# EAGLE library part TS952IPT (library TS952IPT)
Input/output rail-to-rail low power operational amplifiers
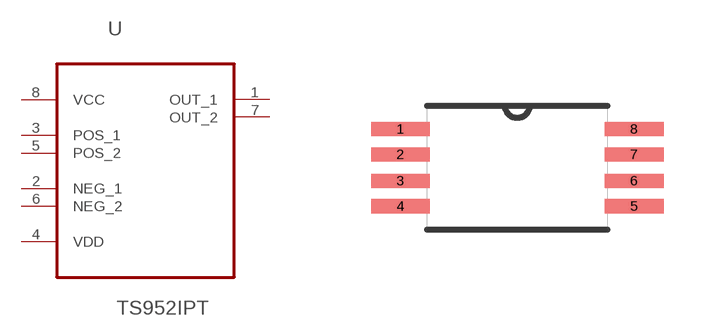
[diagram p0: symbol with the pads of SOP65P640X120-8N; footprint SOP65P640X120-8N]

Designator prefix U

## TS952IPT (Availability: Good; Description: TS952 Series 12 V 3 MHz Rail to Rail Dual Operational Amplifier - TSSOP-8; MF: STMicroelectronics; MP: TS952IPT; Package: TSSOP-8 STMicroelectronics; Price: 0.82 USD)  [SOP65P640X120-8N]
1  OUT_1  out
2  NEG_1  in
3  POS_1  in
4  VDD  pwr
5  POS_2  in
6  NEG_2  in
7  OUT_2  out
8  VCC  pwr

## Footprint SOP65P640X120-8N (pad centres in mm)
smd 1.473 x 0.356: 1 -2.921,0.965; 2 -2.921,0.33; 3 -2.921,-0.33; 4 -2.921,-0.965; 5 2.921,-0.965; 6 2.921,-0.33; 7 2.921,0.33; 8 2.921,0.965